# Altium footprint library 2020-03-28_23-27-57.PcbLib: 3 footprints
Each footprint in its own frame and in the unit in brackets; x right, y up, seen from the top. Pads: shape width x height; smd on the part's side, far side on the other; paste and mask are expansions set on the pad; w line width, h text height; cw(c..) or ccw(c..) is an arc to the next point about the centre after c.
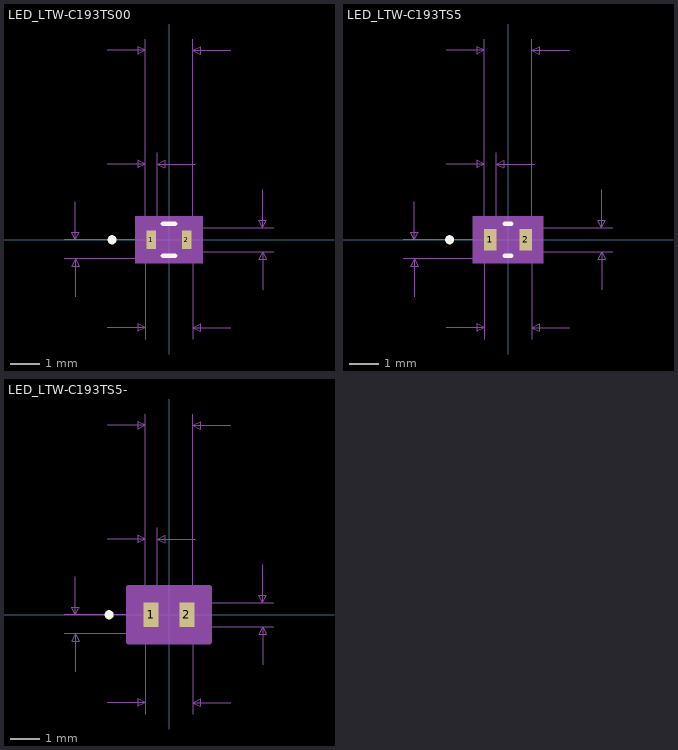
[diagram p0: the footprints below, top view; thin cyan lines are the x and y axes]

## LED_LTW-C193TS00 [mil]
pads (2):
  rect 12.06x24.06 smd paste+0 mask+0: 1(-23.5,0) 2(23.5,0)
Top Overlay:
  circle w6: c-75.03,0 r3
  lines w6: -7.92,-21 7.92,-21 ; -7.92,21 7.92,21
Mechanical 5:
  region: 44.53,-31 -44.53,-31 -44.53,31 44.53,31
Mechanical 7:
  lines w1: -138.5,-25 -23.5,-25 ; -138.5,0 -23.5,0 ; -123.5,-75 -123.5,-25 ; -123.5,50 -123.5,0 ; -81.5,-116 -31.5,-116 ; -81.5,100 -31.5,100 ; -81.5,250 -31.5,250 ; -31.5,-131 -31.5,-16 ; -31.5,115 -31.5,0 -31.5,265 ; -15.5,0 -15.5,115 ; 31.5,-131 31.5,-16 138.5,-16 ; 31.5,0 31.5,265 ; 31.5,16 138.5,16 ; 34.5,100 -15.5,100 ; 81.5,-116 31.5,-116 ; 81.5,250 31.5,250 ; 123.5,-66 123.5,-16 ; 123.5,66 123.5,16 ; -123.5,-25 -128.5,-35 -118.5,-35 -123.5,-25 ; -123.5,0 -128.5,10 -118.5,10 -123.5,0 ; -31.5,-116 -41.5,-111 -41.5,-121 -31.5,-116 ; -31.5,100 -41.5,105 -41.5,95 -31.5,100 ; -31.5,250 -41.5,255 -41.5,245 -31.5,250 ; -15.5,100 -5.5,105 -5.5,95 -15.5,100 ; 31.5,-116 41.5,-111 41.5,-121 31.5,-116 ; 31.5,250 41.5,255 41.5,245 31.5,250 ; 123.5,-16 118.5,-26 128.5,-26 123.5,-16 ; 123.5,16 118.5,26 128.5,26 123.5,16
  text "Default Padstyle: r31_61" at -300,-386 h50
  text "Alt 1 Padstyle: b152_229h76" at -337.5,-566 h50
  text "Alt 2 Padstyle: b229_152h76" at -337.5,-626 h50
  text "0.063in/1.6mm" at -81.25,270 h25
  text "0.016in/0.406mm" at -117.25,120 h25
  text "0.025in/0.635mm" at -331,-25 h25
  text "0.032in/0.813mm" at 143.5,-12.5 h25
  text "0.063in/1.6mm" at -81.25,-161 h25
Mechanical 13:
  circle w0: c0,0 r3
  lines w1: -31.5,-16 31.5,-16 31.5,16 -31.5,16 -31.5,-16
Mechanical 15:
  region: -35.5,-16.03 -35.5,16.03 -35.5,20 35.5,20 35.5,16.03 35.5,-16.03 35.5,-20 -35.5,-20
  lines w6: -35.5,-16.03 -35.5,16.03 ; -35.5,-16.03 -35.5,-16.03 ; -35.5,-16.03 -35.5,-20 35.5,-20 35.5,-16.03 ; -35.5,16.03 -35.5,16.03 ; -35.5,16.03 -35.5,20 35.5,20 35.5,16.03 ; 35.5,-16.03 35.5,16.03 ; 35.5,-16.03 35.5,-16.03 ; 35.5,16.03 35.5,16.03
3D body: height 10, standoff 0, extent 0,0 10,10

## LED_LTW-C193TS5 [mil]
pads (2):
  rect 16x28 smd paste+0 mask+0: 1(-23.5,0) 2(23.5,0)
Top Overlay:
  circle w6: c-77,0 r3
  lines w6: -4.43,-21 4.43,-21 ; -4.43,21 4.43,21
Mechanical 5:
  region: 46.5,-31 -46.5,-31 -46.5,31 46.5,31
Mechanical 7:
  lines w1: -138.5,-25 -23.5,-25 ; -138.5,0 -23.5,0 ; -123.5,-75 -123.5,-25 ; -123.5,50 -123.5,0 ; -81.5,-116 -31.5,-116 ; -81.5,100 -31.5,100 ; -81.5,250 -31.5,250 ; -31.5,-131 -31.5,-16 ; -31.5,115 -31.5,0 -31.5,265 ; -15.5,0 -15.5,115 ; 31.5,-131 31.5,-16 138.5,-16 ; 31.5,0 31.5,265 ; 31.5,16 138.5,16 ; 34.5,100 -15.5,100 ; 81.5,-116 31.5,-116 ; 81.5,250 31.5,250 ; 123.5,-66 123.5,-16 ; 123.5,66 123.5,16 ; -123.5,-25 -128.5,-35 -118.5,-35 -123.5,-25 ; -123.5,0 -128.5,10 -118.5,10 -123.5,0 ; -31.5,-116 -41.5,-111 -41.5,-121 -31.5,-116 ; -31.5,100 -41.5,105 -41.5,95 -31.5,100 ; -31.5,250 -41.5,255 -41.5,245 -31.5,250 ; -15.5,100 -5.5,105 -5.5,95 -15.5,100 ; 31.5,-116 41.5,-111 41.5,-121 31.5,-116 ; 31.5,250 41.5,255 41.5,245 31.5,250 ; 123.5,-16 118.5,-26 128.5,-26 123.5,-16 ; 123.5,16 118.5,26 128.5,26 123.5,16
  text "Default Padstyle: r41_71" at -300,-386 h50
  text "Alt 1 Padstyle: b152_229h76" at -337.5,-566 h50
  text "Alt 2 Padstyle: b229_152h76" at -337.5,-626 h50
  text "0.063in/1.6mm" at -81.25,270 h25
  text "0.016in/0.406mm" at -117.25,120 h25
  text "0.025in/0.635mm" at -331,-25 h25
  text "0.032in/0.813mm" at 143.5,-12.5 h25
  text "0.063in/1.6mm" at -81.25,-161 h25
Mechanical 13:
  circle w0: c0,0 r3
  lines w1: -31.5,-16 31.5,-16 31.5,16 -31.5,16 -31.5,-16
Mechanical 15:
  region: -41.5,-24 -41.5,24 -41.5,26 41.5,26 41.5,24 41.5,-24 41.5,-26 -41.5,-26
  lines w6: -41.5,-24 -41.5,24 ; -41.5,-24 -41.5,-24 ; -41.5,-24 -41.5,-26 41.5,-26 41.5,-24 ; -41.5,24 -41.5,24 ; -41.5,24 -41.5,26 41.5,26 41.5,24 ; 41.5,-24 41.5,24 ; 41.5,-24 41.5,-24 ; 41.5,24 41.5,24
3D body: height 10, standoff 0, extent 0,0 10,10

## LED_LTW-C193TS5- [mil]
pads (2):
  rect 19.94x31.94 smd paste+0 mask+0: 1(-23.5,0) 2(23.5,0)
Top Overlay:
  circle w6: c-78.97,0 r3
Mechanical 5:
  region: 48.47,-31 -48.47,-31 -48.47,31 48.47,31
Mechanical 7:
  lines w1: -138.5,-25 -23.5,-25 ; -138.5,0 -23.5,0 ; -123.5,-75 -123.5,-25 ; -123.5,50 -123.5,0 ; -81.5,-116 -31.5,-116 ; -81.5,100 -31.5,100 ; -81.5,250 -31.5,250 ; -31.5,-131 -31.5,-16 ; -31.5,115 -31.5,0 -31.5,265 ; -15.5,0 -15.5,115 ; 31.5,-131 31.5,-16 138.5,-16 ; 31.5,0 31.5,265 ; 31.5,16 138.5,16 ; 34.5,100 -15.5,100 ; 81.5,-116 31.5,-116 ; 81.5,250 31.5,250 ; 123.5,-66 123.5,-16 ; 123.5,66 123.5,16 ; -123.5,-25 -128.5,-35 -118.5,-35 -123.5,-25 ; -123.5,0 -128.5,10 -118.5,10 -123.5,0 ; -31.5,-116 -41.5,-111 -41.5,-121 -31.5,-116 ; -31.5,100 -41.5,105 -41.5,95 -31.5,100 ; -31.5,250 -41.5,255 -41.5,245 -31.5,250 ; -15.5,100 -5.5,105 -5.5,95 -15.5,100 ; 31.5,-116 41.5,-111 41.5,-121 31.5,-116 ; 31.5,250 41.5,255 41.5,245 31.5,250 ; 123.5,-16 118.5,-26 128.5,-26 123.5,-16 ; 123.5,16 118.5,26 128.5,26 123.5,16
  text "Default Padstyle: r51_81" at -300,-386 h50
  text "Alt 1 Padstyle: b152_229h76" at -337.5,-566 h50
  text "Alt 2 Padstyle: b229_152h76" at -337.5,-626 h50
  text "0.063in/1.6mm" at -81.25,270 h25
  text "0.016in/0.406mm" at -117.25,120 h25
  text "0.025in/0.635mm" at -331,-25 h25
  text "0.032in/0.813mm" at 143.5,-12.5 h25
  text "0.063in/1.6mm" at -81.25,-161 h25
Mechanical 13:
  circle w0: c0,0 r3
  lines w1: -31.5,-16 31.5,-16 31.5,16 -31.5,16 -31.5,-16
Mechanical 15:
  region: -51.5,-35.97 -53.47,-35.97 -53.47,35.97 -51.5,35.97 -51.5,36 51.5,36 51.5,35.97 53.47,35.97 53.47,-35.97 51.5,-35.97 51.5,-36 -51.5,-36
  lines w6: -53.47,-35.97 -53.47,35.97 -51.5,35.97 -51.5,36 51.5,36 51.5,35.97 53.47,35.97 53.47,-35.97 51.5,-35.97 51.5,-36 -51.5,-36 -51.5,-35.97 -53.47,-35.97
3D body: height 10, standoff 0, extent 0,0 10,10